# EAGLE library part LEDD1 (library ledd1)
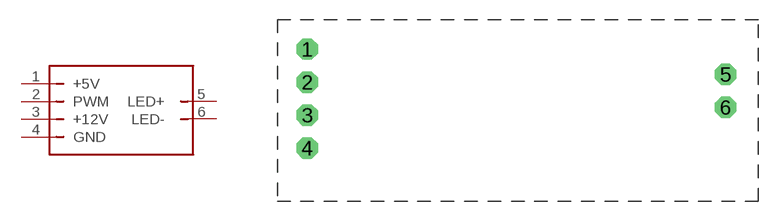
[diagram p0: symbol with the pads of LEDD1; footprint LEDD1]

Designator prefix -

## LEDD1  [LEDD1]
1  +5V  pwr
2  PWM  in
3  +12V  pwr
4  GND  pwr
5  LED+  out
6  LED-  in

## Footprint LEDD1 (pad centres in mm)
drill 1.1 octagon: 1 2.3,11.71; 2 2.3,9.17; 3 2.3,6.63; 4 2.3,4.09; 5 34.5,9.77; 6 34.5,7.23